# EAGLE library part 8051F001 (library cygnal)
8051F001
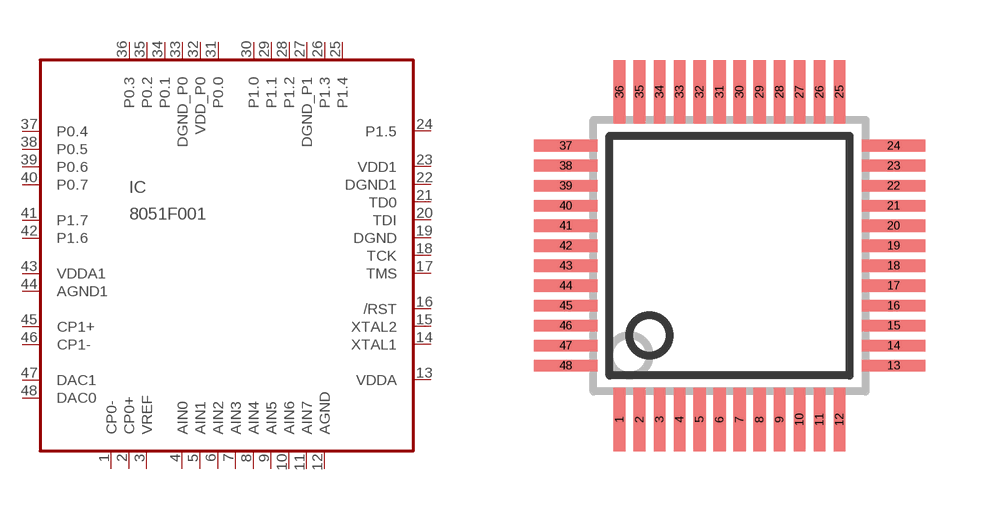
[diagram p1: symbol with the pads of TQFP48; footprint TQFP48]

Designator prefix IC

## 8051F001  [TQFP48]
1  CP0-  in
2  CP0+  in
3  VREF  out
4  AIN0  in
5  AIN1  in
6  AIN2  in
7  AIN3  in
8  AIN4  in
9  AIN5  in
10  AIN6  in
11  AIN7  in
12  AGND  pwr
13  VDDA  pwr
14  XTAL1  in
15  XTAL2  out
16  /RST  in
17  TMS  in
18  TCK  in
19  DGND  pwr
20  TDI  in
21  TD0  out
22  DGND1  pwr
23  VDD1  pwr
24  P1.5
25  P1.4
26  P1.3
27  DGND_P1  pwr
28  P1.2
29  P1.1
30  P1.0
31  P0.0
32  VDD_P0  pwr
33  DGND_P0  pwr
34  P0.1
35  P0.2
36  P0.3
37  P0.4
38  P0.5
39  P0.6
40  P0.7
41  P1.7
42  P1.6
43  VDDA1  pwr
44  AGND1  pwr
45  CP1+  in
46  CP1-  in
47  DAC1  out
48  DAC0  out

## Footprint TQFP48 (pad centres in mm)
TQFP48
smd 0.3 x 1.6: 1 -2.75,-4.1; 2 -2.25,-4.1; 3 -1.75,-4.1; 4 -1.25,-4.1; 5 -0.75,-4.1; 6 -0.25,-4.1; 7 0.25,-4.1; 8 0.75,-4.1; 9 1.25,-4.1; 10 1.75,-4.1; 11 2.25,-4.1; 12 2.75,-4.1; 25 2.75,4.1; 26 2.25,4.1; 27 1.75,4.1; 28 1.25,4.1; 29 0.75,4.1; 30 0.25,4.1; 31 -0.25,4.1; 32 -0.75,4.1; 33 -1.25,4.1; 34 -1.75,4.1; 35 -2.25,4.1; 36 -2.75,4.1
smd 1.6 x 0.3: 13 4.1,-2.75; 14 4.1,-2.25; 15 4.1,-1.75; 16 4.1,-1.25; 17 4.1,-0.75; 18 4.1,-0.25; 19 4.1,0.25; 20 4.1,0.75; 21 4.1,1.25; 22 4.1,1.75; 23 4.1,2.25; 24 4.1,2.75; 37 -4.1,2.75; 38 -4.1,2.25; 39 -4.1,1.75; 40 -4.1,1.25; 41 -4.1,0.75; 42 -4.1,0.25; 43 -4.1,-0.25; 44 -4.1,-0.75; 45 -4.1,-1.25; 46 -4.1,-1.75; 47 -4.1,-2.25; 48 -4.1,-2.75